# EAGLE library part 74LS48 (library Library 74LS)
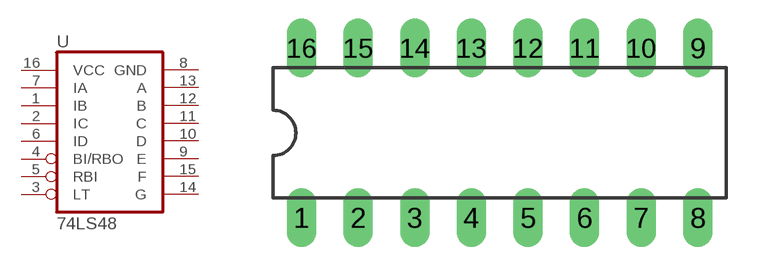
[diagram p0: symbol with the pads of DIO16; footprint DIO16]

Designator prefix -

## 74LS48  [DIO16]
1  IB  in
2  IC  in
3  LT  in
4  BI/RBO  in
5  RBI  in
6  ID  in
7  IA  in
8  GND
9  E  out
10  D  out
11  C  out
12  B  out
13  A  out
14  G  out
15  F  out
16  VCC

## Footprint DIO16 (pad centres in mm)
drill 0.813 long: 1 -15.24,-3.81; 2 -12.7,-3.81; 3 -10.16,-3.81; 4 -7.62,-3.81; 5 -5.08,-3.81; 6 -2.54,-3.81; 7 0,-3.81; 8 2.54,-3.81; 9 2.54,3.81; 10 0,3.81; 11 -2.54,3.81; 12 -5.08,3.81; 13 -7.62,3.81; 14 -10.16,3.81; 15 -12.7,3.81; 16 -15.24,3.81